# Altium footprint library TPS28225_DRB_8.PcbLib: 1 footprints
Each footprint in its own frame and in the unit in brackets; x right, y up, seen from the top. Pads: shape width x height; smd on the part's side, far side on the other; paste and mask are expansions set on the pad; w line width, h text height; cw(c..) or ccw(c..) is an arc to the next point about the centre after c.
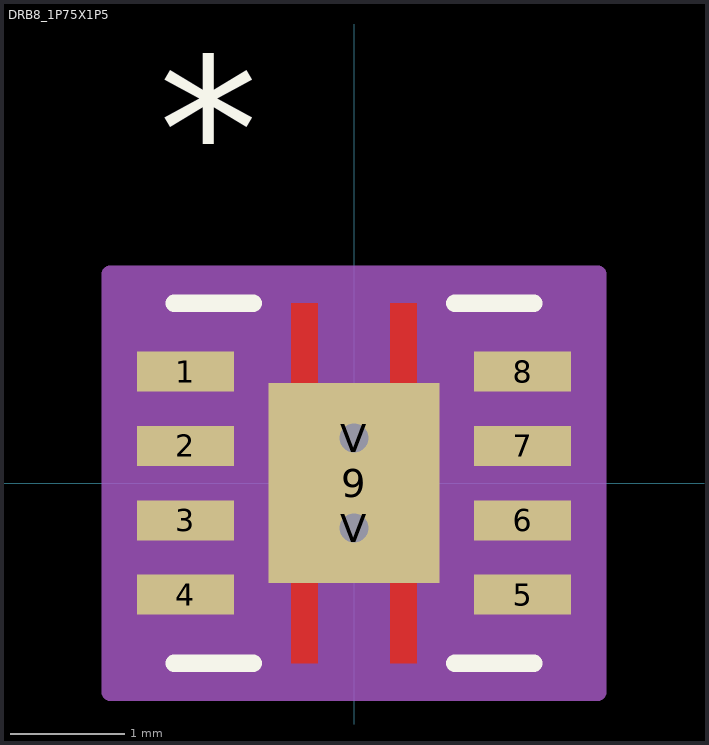
[diagram p0: the footprint, top view; thin cyan lines are the x and y axes]

## DRB8_1P75X1P5 [mm]
pads (11):
  rect 0.85x0.35 smd paste-0.412: 1(-1.475,0.975) 2(-1.475,0.325) 3(-1.475,-0.325) 4(-1.475,-0.975) 5(1.475,-0.975) 6(1.475,-0.325) 7(1.475,0.325) 8(1.475,0.975)
  rect 1.5x1.75 smd paste-0.862 mask-0.864: 9(0,0)
  round 0.508 / inner round 1.524 / far side round 0.508 hole 0.254: V(0,-0.394) V(0,0.394)
Top Layer:
  region: -0.317,-0.875 -0.547,-0.875 -0.547,-1.575 -0.317,-1.575
  region: 0.317,-0.875 0.547,-0.875 0.547,-1.575 0.317,-1.575
  region: 0.317,0.875 0.547,0.875 0.547,1.575 0.317,1.575
  region: -0.317,0.875 -0.547,0.875 -0.547,1.575 -0.317,1.575
  region: 0,-0.875
  region: 0,0.875
Top Overlay:
  lines w0.152: -1.575,-1.575 -0.88,-1.575 ; -1.575,1.575 -0.88,1.575 ; 0.88,-1.575 1.575,-1.575 ; 0.88,1.575 1.575,1.575
  text "*" at -1.709,2.468 h1.27
Top Paste:
  region: 0.675,-0.494 0.241,-0.494 0.1,-0.635 0.1,-0.8 0.675,-0.8
  region: 0.675,0.294 0.241,0.294 0.1,0.152 0.1,-0.152 0.241,-0.294 0.675,-0.294
  region: 0.675,0.8 0.1,0.8 0.1,0.635 0.241,0.494 0.675,0.494
  region: -0.241,-0.494 -0.675,-0.494 -0.675,-0.8 -0.1,-0.8 -0.1,-0.635
  region: -0.241,0.294 -0.675,0.294 -0.675,-0.294 -0.241,-0.294 -0.1,-0.152 -0.1,0.152
  region: -0.1,0.8 -0.675,0.8 -0.675,0.494 -0.241,0.494 -0.1,0.635
  region: -0.368,-0.926 -0.496,-0.926 -0.496,-1.524 -0.368,-1.524
  region: 0.368,-0.926 0.496,-0.926 0.496,-1.524 0.368,-1.524
  region: 0.368,0.926 0.496,0.926 0.496,1.524 0.368,1.524
  region: -0.368,0.926 -0.496,0.926 -0.496,1.524 -0.368,1.524
  region: 0,-0.875
  region: 0,0.875
  region: 1.875,1.125 1.075,1.125 1.075,0.825 1.875,0.825
  region: 1.875,0.475 1.075,0.475 1.075,0.175 1.875,0.175
  region: 1.875,-0.175 1.075,-0.175 1.075,-0.475 1.875,-0.475
  region: 1.875,-0.825 1.075,-0.825 1.075,-1.125 1.875,-1.125
  region: -1.075,-0.825 -1.875,-0.825 -1.875,-1.125 -1.075,-1.125
  region: -1.075,-0.175 -1.875,-0.175 -1.875,-0.475 -1.075,-0.475
  region: -1.075,0.475 -1.875,0.475 -1.875,0.175 -1.075,0.175
  region: -1.075,1.125 -1.875,1.125 -1.875,0.825 -1.075,0.825
Top Solder:
  region: 0.2,-0.938 0.2,0.938 0.814,0.938 0.814,-0.938
  region: -0.814,-0.938 -0.814,0.938 -0.2,0.938 -0.2,-0.938
  region: -0.814,-0.938 -0.814,-0.594 0.814,-0.594 0.814,-0.938
  region: -0.814,-0.194 -0.814,0.194 0.814,0.194 0.814,-0.194
  region: -0.814,0.594 -0.814,0.938 0.814,0.938 0.814,0.594
  region: -0.317,-0.875 -0.547,-0.875 -0.547,-1.575 -0.317,-1.575
  region: 0.317,-0.875 0.547,-0.875 0.547,-1.575 0.317,-1.575
  region: 0.317,0.875 0.547,0.875 0.547,1.575 0.317,1.575
  region: -0.317,0.875 -0.547,0.875 -0.547,1.575 -0.317,1.575
  region: 0,-0.875
  region: 0,0.875
  region: 1.97,1.22 0.98,1.22 0.98,0.73 1.97,0.73
  region: 1.97,0.57 0.98,0.57 0.98,0.08 1.97,0.08
  region: 1.97,-0.08 0.98,-0.08 0.98,-0.57 1.97,-0.57
  region: 1.97,-0.73 0.98,-0.73 0.98,-1.22 1.97,-1.22
  region: -0.98,-0.73 -1.97,-0.73 -1.97,-1.22 -0.98,-1.22
  region: -0.98,-0.08 -1.97,-0.08 -1.97,-0.57 -0.98,-0.57
  region: -0.98,0.57 -1.97,0.57 -1.97,0.08 -0.98,0.08
  region: -0.98,1.22 -1.97,1.22 -1.97,0.73 -0.98,0.73
Mechanical 13:
  lines w0: -0.305,1.575 ccw(c0,1.575) 0.305,1.575
  text "*" at -1.709,2.468 h1.27
Mechanical 15:
  region: 2.134,-1.829 -2.134,-1.829 -2.134,1.829 2.134,1.829
  lines w0.152: -2.134,-1.829 2.134,-1.829 2.134,1.829 -2.134,1.829 -2.134,-1.829